# EAGLE library part TA8440H (library C8051F300)
TA8440H DC MOTOR FULL BRIDGE DRIVER
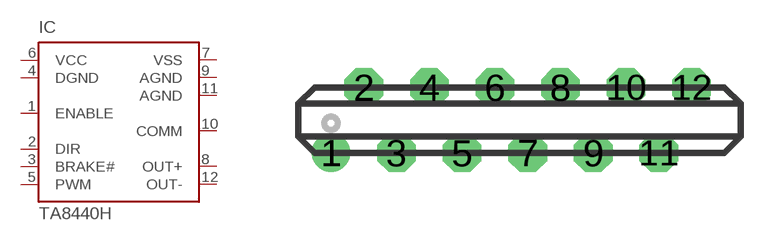
[diagram p8: symbol with the pads of ZIP12; footprint ZIP12]

Designator prefix IC

## TA8440H  [ZIP12]
1  ENABLE  in
2  DIR  in
3  BRAKE#  in
4  DGND  pwr
5  PWM  in
6  VCC  pwr
7  VSS  pwr
8  OUT+  out
9  AGND  pwr
10  COMM  pwr
11  AGND  pwr
12  OUT-  out

## Footprint ZIP12 (pad centres in mm)
drill 0.991 round: 1 -7.62,-1.27
drill 0.991 octagon: 2 -6.35,1.27; 3 -5.08,-1.27; 4 -3.81,1.27; 5 -2.54,-1.27; 6 -1.27,1.27; 7 0,-1.27; 8 1.27,1.27; 9 2.54,-1.27; 10 3.81,1.27; 11 5.08,-1.27; 12 6.35,1.27